# EAGLE library part V__VFD_5-MT-15 (library ++Bedrahtet)
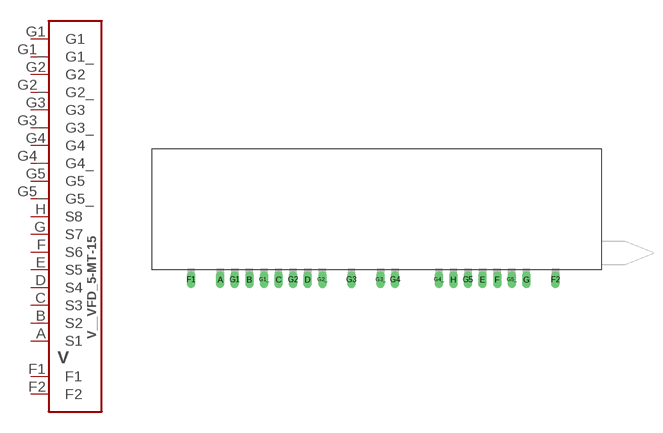
[diagram p29: symbol with the pads of VFD_5-MT-15; footprint VFD_5-MT-15]

Designator prefix V

## V__VFD_5-MT-15  [VFD_5-MT-15]
A  S1
B  S2
C  S3
D  S4
E  S5
F  S6
F1  F1
F2  F2
G  S7
G1  G1
G1_  G1_
G2  G2
G2_  G2_
G3  G3
G3_  G3_
G4  G4
G4_  G4_
G5  G5
G5_  G5_
H  S8

## Footprint VFD_5-MT-15 (pad centres in mm)
drill 1 long: A 5.08,0; B 10.16,0; C 15.24,0; D 20.32,0; E 50.8,0; F 53.34,0; F1 0,0; F2 63.5,0; G 58.42,0; G1 7.62,0; G1_ 12.7,0; G2 17.78,0; G2_ 22.86,0; G3 27.94,0; G3_ 33.02,0; G4 35.56,0; G4_ 43.18,0; G5 48.26,0; G5_ 55.88,0; H 45.72,0